# Altium footprint library idl-fixed_new.PCBLIB: 92 footprints (part 4 of 6)
Each footprint in its own frame and in the unit in brackets; x right, y up, seen from the top. Pads: shape width x height; smd on the part's side, far side on the other; paste and mask are expansions set on the pad; w line width, h text height; cw(c..) or ccw(c..) is an arc to the next point about the centre after c.
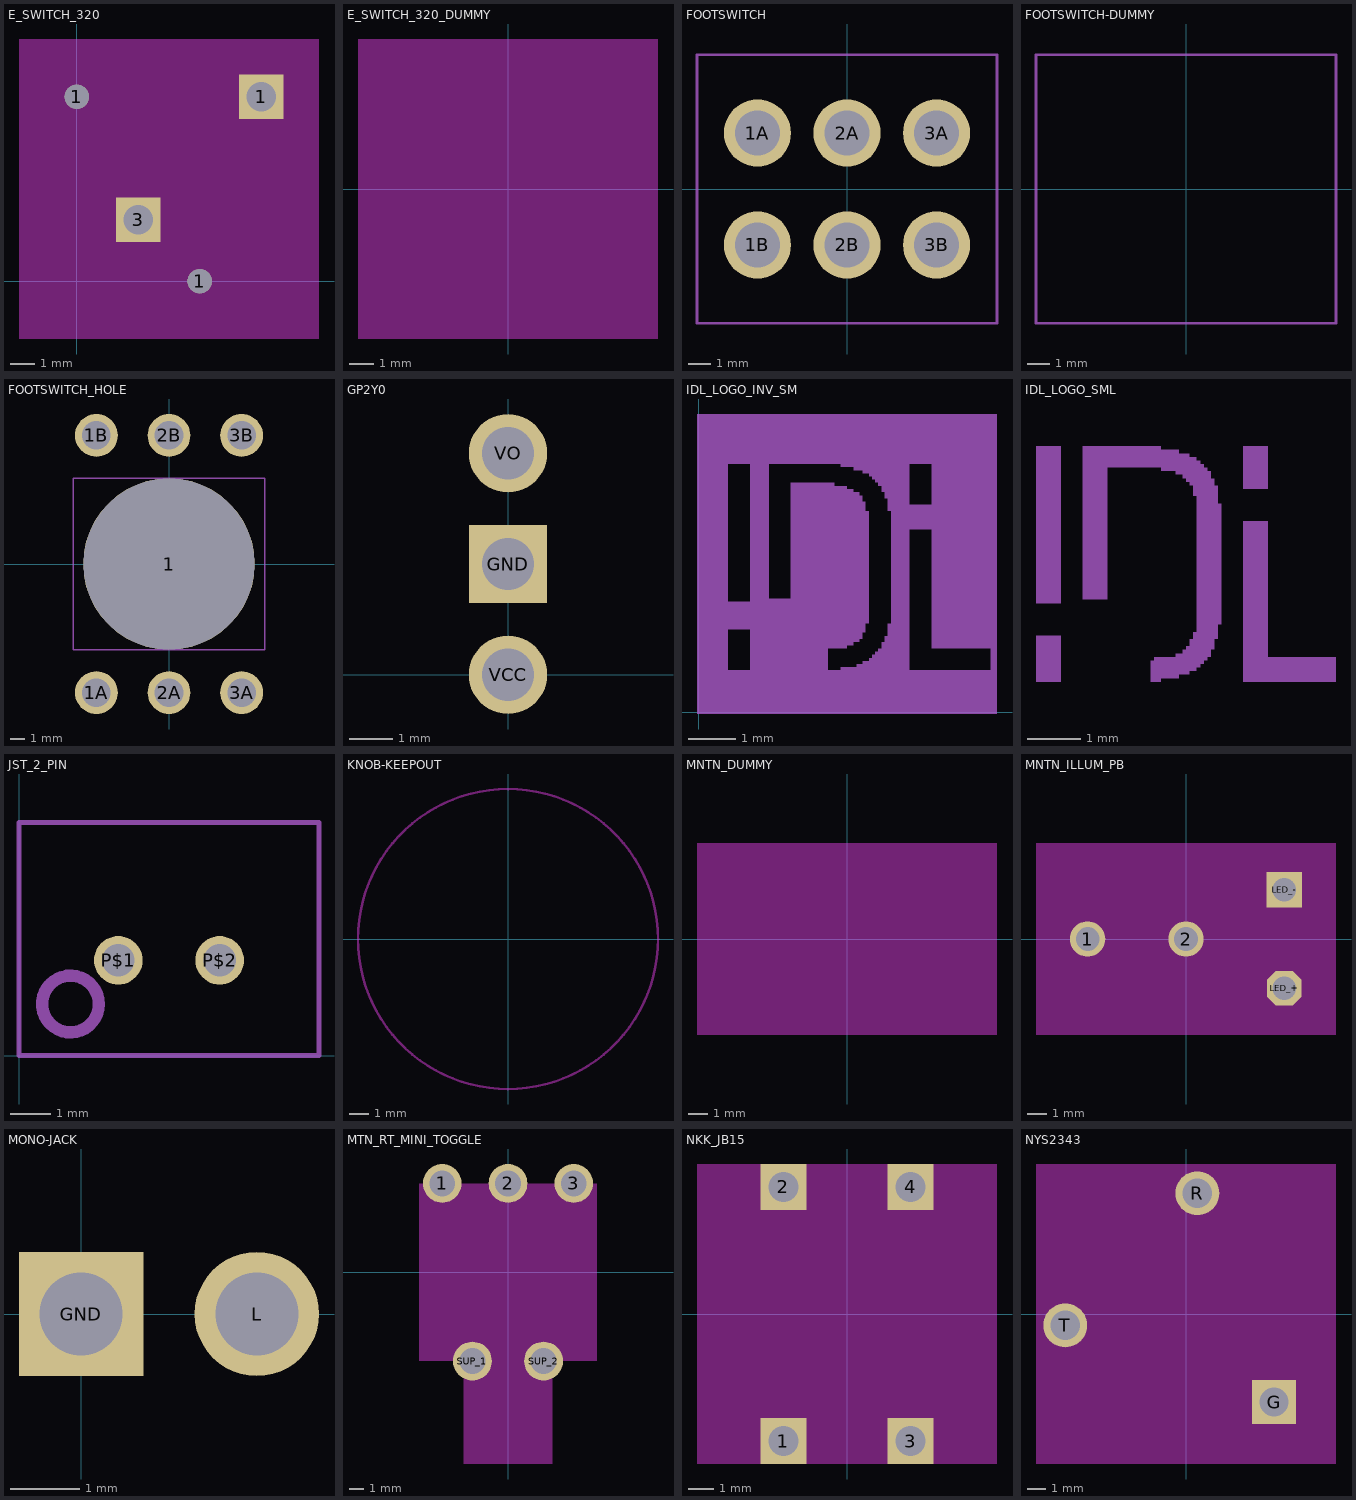
[diagram p3: the footprints below, top view; thin cyan lines are the x and y axes]

## E_SWITCH_320 [mm]
pads (4):
  round 1 hole 1: 1(0,7.62) 1(5.08,0)
  rect 1.83x1.83 hole 1.22: 1(7.62,7.62) 3(2.54,2.54)
Keep-Out Layer:
  rectangle: -2.39,-2.39 10.01,10.01

## E_SWITCH_320_DUMMY [mil]
Keep-Out Layer:
  rectangle: -244.09,-244.09 244.09,244.09

## FOOTSWITCH [mm]
pads (6):
  round 3 hole 2: 1A(-4,2.5) 1B(-4,-2.5) 2A(0,2.5) 2B(0,-2.5) 3A(4,2.5) 3B(4,-2.5)
Mechanical 2:
  lines w0.127: -6.7,-6 6.7,-6 6.7,6 -6.7,6 -6.7,-6

## FOOTSWITCH-DUMMY [mil]
Mechanical 2:
  lines w5: -263.78,-236.22 263.78,-236.22 263.78,236.22 -263.78,236.22 -263.78,-236.22

## FOOTSWITCH_HOLE [mm]
pads (7):
  round 12 hole 12: 1(0,0)
  round 3 hole 2: 1A(-5.08,-9) 1B(-5.08,9) 2A(0,-9) 2B(0,9) 3A(5.08,-9) 3B(5.08,9)
Mechanical 2:
  lines w0.127: -6.7,-6 6.7,-6 6.7,6 -6.7,6 -6.7,-6

## GP2Y0 [mil]
pads (3):
  rect 70.86x70.86 hole 47.24: GND(0,100)
  round 70.86 hole 47.24: VCC(0,0) VO(0,200)

## IDL_LOGO_INV_SM [mil]
Mechanical 2:
  drawing of 314 lines, arcs and shapes, not listed

## IDL_LOGO_SML [mil]
Mechanical 2:
  drawing of 217 lines, arcs and shapes, not listed

## JST_2_PIN [mil]
pads (2):
  round 47.25 hole 31.5: P$1(96.46,92.52) P$2(194.88,92.52)
Mechanical 2:
  circle w12: c50,50 r27.56
  lines w5: 0,0 0,226.38 291.34,226.38 291.34,0 0,0

## KNOB-KEEPOUT [mil]
Keep-Out Layer:
  circle w5: c0,0 r300

## MNTN_DUMMY [mil]
Keep-Out Layer:
  rectangle: -304.92,-194.88 304.92,194.88

## MNTN_ILLUM_PB [mil]
pads (4):
  round 72.05 hole 48.03: 1(-200,0) 2(0,0)
  oct 69.76x69.76 hole 48.03: LED_+(200,-100)
  rect 72.05x72.05 hole 48.03: LED_-(200,100)
Keep-Out Layer:
  rectangle: -304.92,-194.88 304.92,194.88

## MONO-JACK [mil]
pads (2):
  rect 70.86x70.86 hole 47.24: GND(0,0)
  round 70.86 hole 47.24: L(100,0)

## MTN_RT_MINI_TOGGLE [mm]
pads (5):
  round 2.775 hole 1.85: 1(-4.7,6.35) 2(0,6.35) 3(4.7,6.35) SUP_1(-2.54,-6.35) SUP_2(2.54,-6.35)
Keep-Out Layer:
  rectangle: -6.35,-6.35 6.35,6.35
  rectangle: -3.175,-13.71 3.175,-6.35

## NKK_JB15 [mil]
pads (4):
  rect 72.05x72.05 hole 48.03: 1(-100,-200) 2(-100,200) 3(100,-200) 4(100,200)
Keep-Out Layer:
  rectangle: -236.22,-236.22 236.22,236.22
  lines w5: -196.85,-196.85 -196.85,196.85 196.85,196.85 196.85,-196.85 -196.85,-196.85

## NYS2343 [mil]
pads (3):
  rect 91.53x91.53 hole 61.02: G(183.86,-183.86)
  round 91.53 hole 61.02: R(23.62,251.97) T(-251.97,-23.62)
Keep-Out Layer:
  rectangle: -312.99,-312.99 312.99,312.99